# EAGLE library part COMPUTER (library Custom Block Diagram Parts)
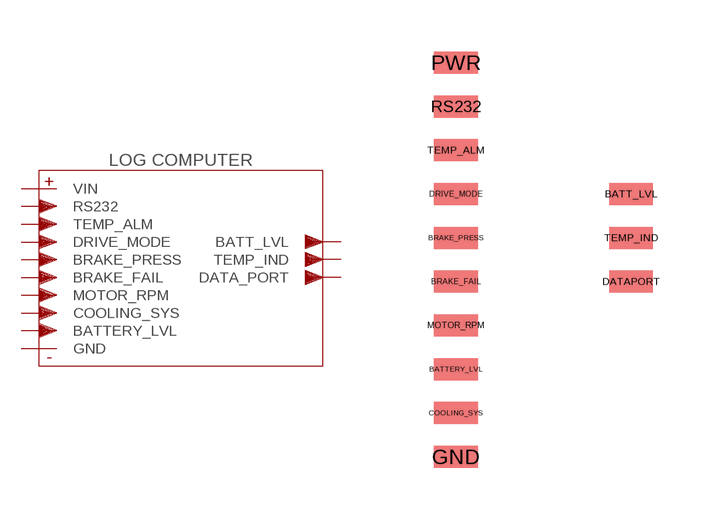
[diagram p2: symbol with the pads of COMPUTER; footprint COMPUTER]

Designator prefix -

## COMPUTER  [COMPUTER]
BATT_LVL  BATT_LVL
BATTERY_LVL  BATTERY_LVL
BRAKE_FAIL  BRAKE_FAIL
BRAKE_PRESS  BRAKE_PRESS
COOLING_SYS  COOLING_SYS
DATAPORT  DATA_PORT
DRIVE_MODE  DRIVE_MODE
GND  GND
MOTOR_RPM  MOTOR_RPM
PWR  VIN
RS232  RS232
TEMP_ALM  TEMP_ALM
TEMP_IND  TEMP_IND

## Footprint COMPUTER (pad centres in mm)
smd 1.27 x 0.635: BATT_LVL 2.54,0; BATTERY_LVL -2.54,-5.08; BRAKE_FAIL -2.54,-2.54; BRAKE_PRESS -2.54,-1.27; COOLING_SYS -2.54,-6.35; DATAPORT 2.54,-2.54; DRIVE_MODE -2.54,0; GND -2.54,-7.62; MOTOR_RPM -2.54,-3.81; PWR -2.54,3.81; RS232 -2.54,2.54; TEMP_ALM -2.54,1.27; TEMP_IND 2.54,-1.27